# EAGLE library part S12551-2048 (library s12551-2048)
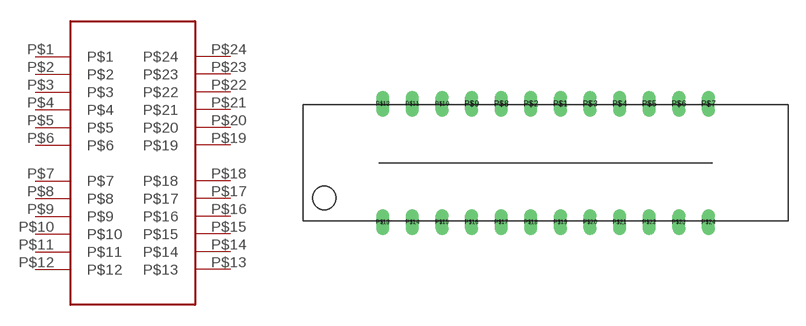
[diagram p0: symbol with the pads of S12551-2048; footprint S12551-2048]

Designator prefix -

## S12551-2048  [S12551-2048]
P$1  P$1
P$2  P$2
P$3  P$3
P$4  P$4
P$5  P$5
P$6  P$6
P$7  P$7
P$8  P$8
P$9  P$9
P$10  P$10
P$11  P$11
P$12  P$12
P$13  P$13
P$14  P$14
P$15  P$15
P$16  P$16
P$17  P$17
P$18  P$18
P$19  P$19
P$20  P$20
P$21  P$21
P$22  P$22
P$23  P$23
P$24  P$24

## Footprint S12551-2048 (pad centres in mm)
drill 0.6 long: P$1 1.27,5.08; P$2 -1.27,5.08; P$3 3.81,5.08; P$4 6.35,5.08; P$5 8.89,5.08; P$6 11.43,5.08; P$7 13.97,5.08; P$8 -3.81,5.08; P$9 -6.35,5.08; P$10 -8.89,5.08; P$11 -11.43,5.08; P$12 -13.97,5.08; P$13 -13.97,-5.08; P$14 -11.43,-5.08; P$15 -8.89,-5.08; P$16 -6.35,-5.08; P$17 -3.81,-5.08; P$18 -1.27,-5.08; P$19 1.27,-5.08; P$20 3.81,-5.08; P$21 6.35,-5.08; P$22 8.89,-5.08; P$23 11.43,-5.08; P$24 13.97,-5.08